# EAGLE library part 686128148922 (library Eagle_FPC_CONNECTOR_AND_FFC_CAB (rev18c))
WR-FPC 1mm SMT Horiz. Bot. Contact Hinge type WR-FPC 1mm 28 pins Hinge type SMT Horizontal Bottom Contact ;=>Code : Con_FPC_ZIF_1.00_6861xx148922_686128148922 <http://katalog.we-online.de/media/images/eican/Con_FPC_ZIF_1.00_686110148922_pf2.jpg> Details see: http://katalog.we-online.de/em/datasheet/6861xx148922.pdf Created 2014-10-08, Karrer Zheng 2014 (C) Wurth Elektronik
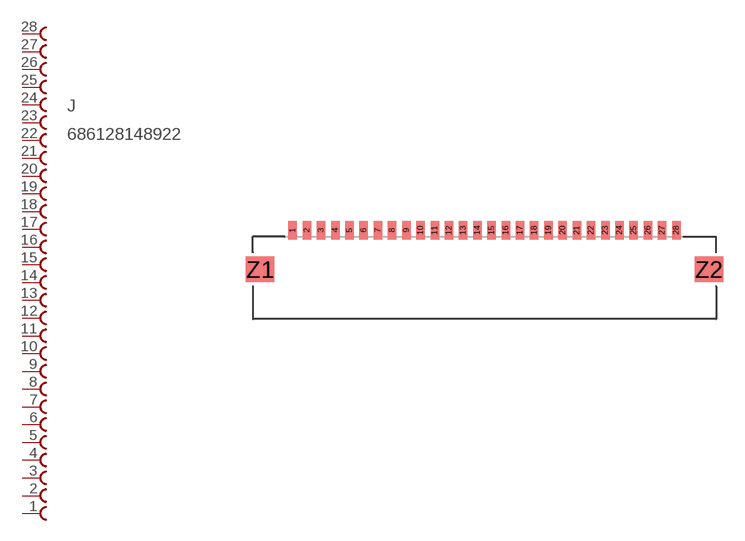
[diagram p102: symbol with the pads of 686128148922; footprint 686128148922]

Designator prefix J

## 686128148922  [686128148922]
1  28  pas
2  27  pas
3  26  pas
4  25  pas
5  24  pas
6  23  pas
7  22  pas
8  21  pas
9  20  pas
10  19  pas
11  18  pas
12  17  pas
13  16  pas
14  15  pas
15  14  pas
16  13  pas
17  12  pas
18  11  pas
19  10  pas
20  9  pas
21  8  pas
22  7  pas
23  6  pas
24  5  pas
25  4  pas
26  3  pas
27  2  pas
28  1  pas

## Footprint 686128148922 (pad centres in mm)
WR-FPC 1mm SMT Horiz. Bot. Contact Hinge type WR-FPC 1mm 28pins Hinge type SMT Horizontal Bottom Contact
smd 0.6 x 1.3: 1 -13.5,2.75; 2 -12.5,2.75; 3 -11.5,2.75; 4 -10.5,2.75; 5 -9.5,2.75; 6 -8.5,2.75; 7 -7.5,2.75; 8 -6.5,2.75; 9 -5.5,2.75; 10 -4.5,2.75; 11 -3.5,2.75; 12 -2.5,2.75; 13 -1.5,2.75; 14 -0.5,2.75; 15 0.5,2.75; 16 1.5,2.75; 17 2.5,2.75; 18 3.5,2.75; 19 4.5,2.75; 20 5.5,2.75; 21 6.5,2.75; 22 7.5,2.75; 23 8.5,2.75; 24 9.5,2.75; 25 10.5,2.75; 26 11.5,2.75; 27 12.5,2.75; 28 13.5,2.75
smd 2 x 1.8: Z1 -15.8,0; Z2 15.8,0